# Altium footprint library SO-8.PcbLib: 1 footprints
Each footprint in its own frame and in the unit in brackets; x right, y up, seen from the top. Pads: shape width x height; smd on the part's side, far side on the other; paste and mask are expansions set on the pad; w line width, h text height; cw(c..) or ccw(c..) is an arc to the next point about the centre after c.
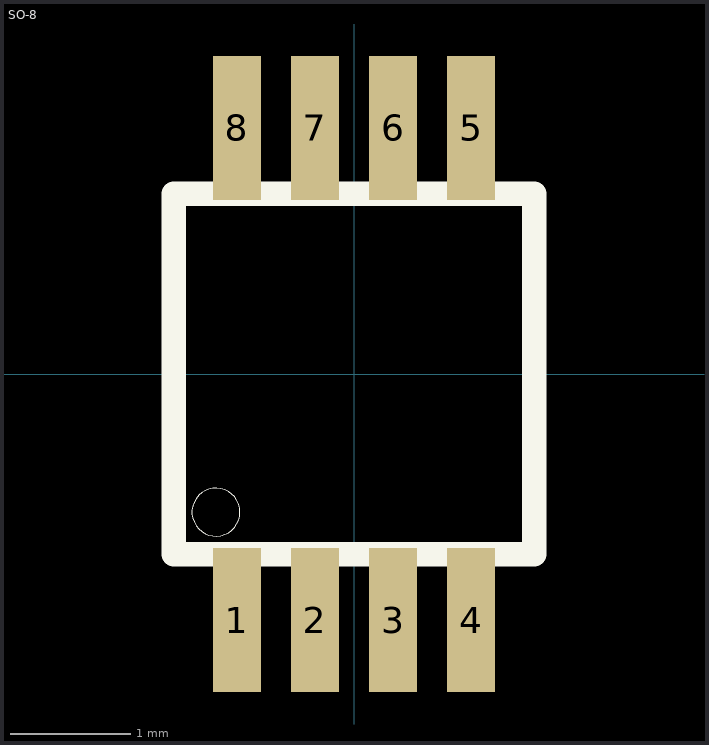
[diagram p0: the footprint, top view; thin cyan lines are the x and y axes]

## SO-8 [mm]
pads (8):
  rect 0.4x1.2 smd: 1(-0.975,-2.05) 2(-0.325,-2.05) 3(0.325,-2.05) 4(0.975,-2.05) 5(0.975,2.05) 6(0.325,2.05) 7(-0.325,2.05) 8(-0.975,2.05)
Top Overlay:
  circle w0: c-1.15,-1.15 r0.2
  lines w0.203: -1.5,-1.5 1.5,-1.5 1.5,1.5 -1.5,1.5 -1.5,-1.5
Mechanical 13:
  region: -0.825,-2.492 -1.144,-2.492 -1.144,-1.55 -0.825,-1.55
  region: -0.175,-2.489 -0.483,-2.489 -0.483,-1.55 -0.175,-1.55
  region: 0.475,-2.482 0.177,-2.482 0.177,-1.55 0.475,-1.55
  region: 1.125,-2.472 0.832,-2.472 0.832,-1.55 1.125,-1.55
  region: 1.125,1.569 0.835,1.569 0.835,2.45 1.125,2.45
  region: 0.475,1.566 0.177,1.566 0.177,2.45 0.475,2.45
  region: -0.175,1.573 -0.482,1.573 -0.482,2.45 -0.175,2.45
  region: -0.825,1.572 -1.141,1.572 -1.141,2.45 -0.825,2.45